# Altium schematic symbol library MCP3021A5T-E_OT.SchLib: 1 symbol
Pins are listed as number, name and electrical type; pins without a type are passive.

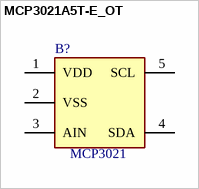
[diagram p0: symbol MCP3021A5T-E_OT]

## MCP3021A5T-E_OT
designator B?, comment MCP3021
Analog to Digital Converters - ADC 10-bit I2C Sgl Chnl; Manufacturer_Name: Microchip; Manufacturer_Part_Number: MCP3021A5T-E/OT; Geometry.Height: 1.45mm; Foot Print: SOT-23-5; Datasheet Link: https://lcsc.componentsearchengine.com/Datasheets/2/MCP3021A5T-E_OT.pdf; LCSC: C128576
pins: 1 VDD, 2 VSS, 3 AIN, 4 SDA, 5 SCL